# Altium schematic symbol library SCH - CONNECTORS - 22 PIN.SCHLIB: 1 symbol
Pins are listed as number, name and electrical type; pins without a type are passive.

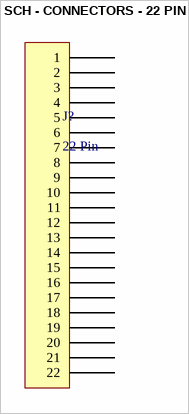
[diagram p0: symbol SCH - CONNECTORS - 22 PIN]

## SCH - CONNECTORS - 22 PIN
designator J?, comment 22 Pin
pins: 1, 2, 3, 4, 5, 6, 7, 8, 9, 10, 11, 12, 13, 14, 15, 16, 17, 18, 19, 20, 21, 22